# EAGLE library part PROTO_AREA_5X3 (library !Redox)
5x3 Prototyping Area
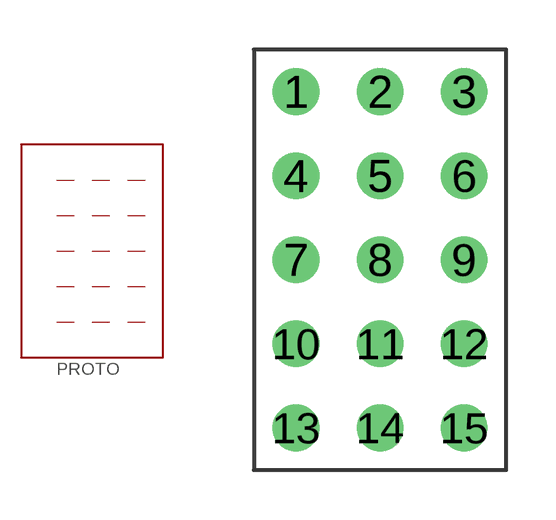
[diagram p4: symbol with the pads of PROTO_AREA_5X3; footprint PROTO_AREA_5X3]

Designator prefix PROTO

## PROTO_AREA_5X3  [PROTO_AREA_5X3]
1  1
2  2
3  3
4  4
5  5
6  6
7  7
8  8
9  9
10  10
11  11
12  12
13  13
14  14
15  15

## Footprint PROTO_AREA_5X3 (pad centres in mm)
drill 0.9: 1 0,0; 2 2.54,0; 3 5.08,0; 4 0,-2.54; 5 2.54,-2.54; 6 5.08,-2.54; 7 0,-5.08; 8 2.54,-5.08; 9 5.08,-5.08; 10 0,-7.62; 11 2.54,-7.62; 12 5.08,-7.62; 13 0,-10.16; 14 2.54,-10.16; 15 5.08,-10.16